# EAGLE library part KS8721BL (library micrel)
Physical Layer Transceiver 10Base-T/100Base-TX/100Base-FX
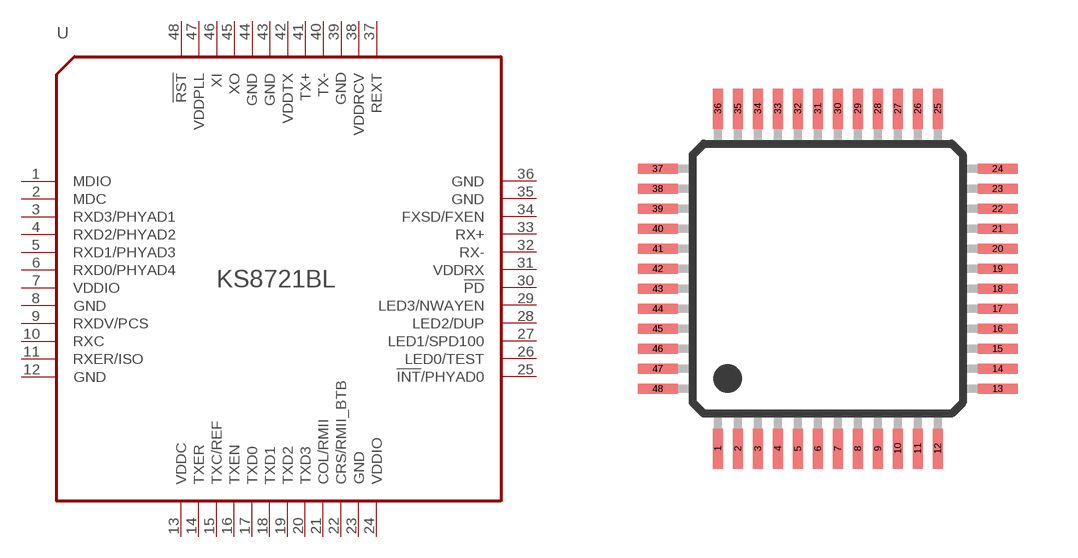
[diagram p2: symbol with the pads of TQFP48; footprint TQFP48]

Designator prefix U

## KS8721BL  [TQFP48]
1  MDIO
2  MDC  in
3  RXD3/PHYAD1  out
4  RXD2/PHYAD2  out
5  RXD1/PHYAD3  out
6  RXD0/PHYAD4  out
7  VDDIO  pwr
8  GND  pwr
9  RXDV/PCS  out
10  RXC  out
11  RXER/ISO  out
12  GND  pwr
13  VDDC  pwr
14  TXER  in
15  TXC/REF
16  TXEN  in
17  TXD0  in
18  TXD1  in
19  TXD2  in
20  TXD3  in
21  COL/RMII
22  CRS/RMII_BTB
23  GND  pwr
24  VDDIO  pwr
25  !INT!/PHYAD0  out
26  LED0/TEST
27  LED1/SPD100
28  LED2/DUP
29  LED3/NWAYEN
30  !PD!  in
31  VDDRX  pwr
32  RX-  in
33  RX+  in
34  FXSD/FXEN
35  GND  pwr
36  GND  pwr
37  REXT  in
38  VDDRCV  pwr
39  GND  pwr
40  TX-  out
41  TX+  out
42  VDDTX  pwr
43  GND  pwr
44  GND  pwr
45  XO  out
46  XI  in
47  VDDPLL  pwr
48  !RST!  in

## Footprint TQFP48 (pad centres in mm)
TQFP48 7mm x 7mm
smd 0.25 x 1: 1 -2.75,-4.25; 2 -2.25,-4.25; 3 -1.75,-4.25; 4 -1.25,-4.25; 5 -0.75,-4.25; 6 -0.25,-4.25; 7 0.25,-4.25; 8 0.75,-4.25; 9 1.25,-4.25; 10 1.75,-4.25; 11 2.25,-4.25; 12 2.75,-4.25; 25 2.75,4.25; 26 2.25,4.25; 27 1.75,4.25; 28 1.25,4.25; 29 0.75,4.25; 30 0.25,4.25; 31 -0.25,4.25; 32 -0.75,4.25; 33 -1.25,4.25; 34 -1.75,4.25; 35 -2.25,4.25; 36 -2.75,4.25
smd 1 x 0.25: 13 4.25,-2.75; 14 4.25,-2.25; 15 4.25,-1.75; 16 4.25,-1.25; 17 4.25,-0.75; 18 4.25,-0.25; 19 4.25,0.25; 20 4.25,0.75; 21 4.25,1.25; 22 4.25,1.75; 23 4.25,2.25; 24 4.25,2.75; 37 -4.25,2.75; 38 -4.25,2.25; 39 -4.25,1.75; 40 -4.25,1.25; 41 -4.25,0.75; 42 -4.25,0.25; 43 -4.25,-0.25; 44 -4.25,-0.75; 45 -4.25,-1.25; 46 -4.25,-1.75; 47 -4.25,-2.25; 48 -4.25,-2.75